# Altium footprint library 3Delight - Copy.PcbLib: 108 footprints (part 5 of 7)
Each footprint in its own frame and in the unit in brackets; x right, y up, seen from the top. Pads: shape width x height; smd on the part's side, far side on the other; paste and mask are expansions set on the pad; w line width, h text height; cw(c..) or ccw(c..) is an arc to the next point about the centre after c.
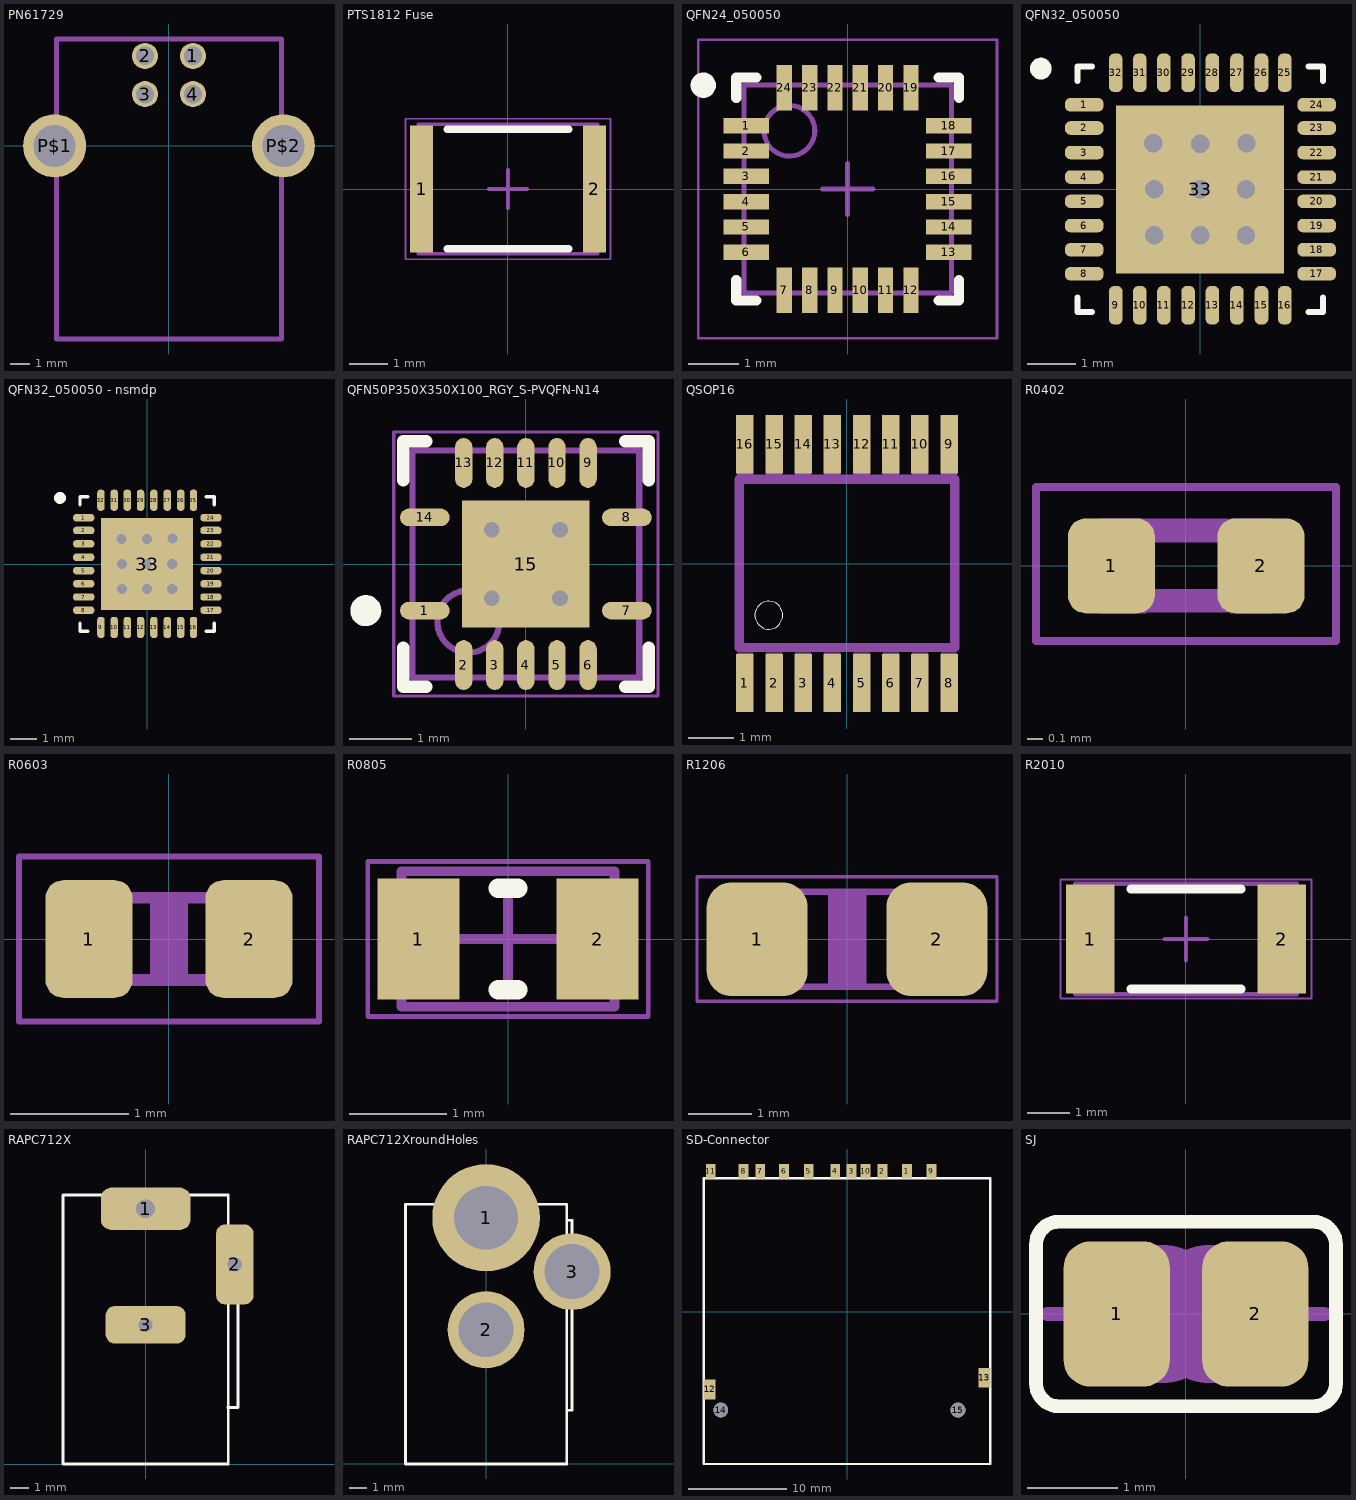
[diagram p4: the footprints below, top view; thin cyan lines are the x and y axes]

## PN61729 [mil]
pads (6):
  round 54 hole 38: 1(50,186) 2(-49.21,186) 3(-49.21,107) 4(50,107)
  round 130.5 hole 87: P$1(-236.22,0) P$2(237,0)
Top Document:
  lines w10: -232.28,-399.61 -232.28,221 233,221 233,-399.61 -232.28,-399.61
3D body: height 405.51, standoff 27.56, extent -237.28,-404.61 238,226

## PTS1812 Fuse [mm]
height 1.2
pads (2):
  rect 0.6x3.35 smd: 1(-2.275,0) 2(2.275,0)
Top Overlay:
  lines w0.2: -1.6,-1.575 1.6,-1.575 ; -1.6,1.575 1.6,1.575
Mechanical 13:
  lines w0.1: -2.365,-1.705 2.365,-1.705 2.365,1.705 -2.365,1.705 -2.365,-1.705
Top Courtyard:
  lines w0.05: -2.7,-1.85 2.7,-1.85 2.7,1.85 -2.7,1.85 -2.7,-1.85
  lines w0.1: -0.5,0 0.5,0 ; 0,-0.5 0,0.5
3D body: height 1.2, standoff 0, extent 2.135,-1.705 2.365,1.705
3D body: height 1.2, standoff 0, extent -2.365,-1.705 -2.135,1.705
3D body: height 1.2, standoff 0, extent -2.135,-1.705 2.135,1.705

## QFN24_050050 [mm] "MPU-6050"
height 0.95
pads (24):
  rect 0.9x0.3 smd: 1(-2,1.25) 2(-2,0.75) 3(-2,0.25) 4(-2,-0.25) 5(-2,-0.75) 6(-2,-1.25) 13(2,-1.25) 14(2,-0.75) 15(2,-0.25) 16(2,0.25) 17(2,0.75) 18(2,1.25)
  rect 0.3x0.9 smd: 7(-1.25,-2) 8(-0.75,-2) 9(-0.25,-2) 10(0.25,-2) 11(0.75,-2) 12(1.25,-2) 19(1.25,2) 20(0.75,2) 21(0.25,2) 22(-0.25,2) 23(-0.75,2) 24(-1.25,2)
Top Overlay:
  circle w0.25: c-2.85,2.05 r0.125
  lines w0.2: -2.2,-1.8 -2.2,-2.2 -1.8,-2.2 ; -2.2,1.8 -2.2,2.2 -1.8,2.2 ; 1.8,-2.2 2.2,-2.2 2.2,-1.8 ; 1.8,2.2 2.2,2.2 2.2,1.8
Mechanical 13:
  circle w0.1: c-1.15,1.15 r0.5
  lines w0.1: -2.05,-2.05 2.05,-2.05 2.05,2.05 -2.05,2.05 -2.05,-2.05
Top Courtyard:
  lines w0.05: -2.95,-2.95 2.95,-2.95 2.95,2.95 -2.95,2.95 -2.95,-2.95
  lines w0.1: -0.5,0 0.5,0 ; 0,-0.5 0,0.5
3D body: height 0.95, standoff 0, extent -2.05,-2.05 2.05,2.05

## QFN32_050050 [mm]
pads (33):
  rrect80% 0.8x0.28 smd mask+0.05: 1(-2.4,1.753) 2(-2.4,1.27) 3(-2.4,0.762) 4(-2.4,0.254) 5(-2.4,-0.25) 6(-2.4,-0.75) 7(-2.4,-1.25) 8(-2.4,-1.75) 17(2.413,-1.75) 18(2.413,-1.25) 19(2.413,-0.75) 20(2.413,-0.25) 21(2.413,0.254) 22(2.413,0.762) 23(2.413,1.27) 24(2.413,1.753)
  rrect80% 0.28x0.8 smd mask+0.05: 9(-1.75,-2.4) 10(-1.25,-2.4) 11(-0.75,-2.4) 12(-0.25,-2.4) 13(0.254,-2.4) 14(0.762,-2.4) 15(1.27,-2.4) 16(1.753,-2.4) 25(1.753,2.413) 26(1.27,2.413) 27(0.762,2.413) 28(0.254,2.413) 29(-0.25,2.413) 30(-0.75,2.413) 31(-1.25,2.413) 32(-1.75,2.413)
  rect 3.48x3.48 smd paste-4 mask-4: 33(0,0)
via 0.95,-0.95 diameter 0.762 hole 0.381
via 0,-0.95 diameter 0.762 hole 0.381
via -0.95,-0.95 diameter 0.762 hole 0.381
via -0.95,0 diameter 0.762 hole 0.381
via -0.975,0.95 diameter 0.762 hole 0.381
via 0,0.945 diameter 0.762 hole 0.381
via 0.959,0.957 diameter 0.762 hole 0.381
via 0.95,0 diameter 0.762 hole 0.381
via 0,0 diameter 0.762 hole 0.381
Top Overlay:
  circle w0.25: c-3.3,2.5 r0.1
  lines w0.127: -2.54,-2.24 -2.54,-2.54 -2.24,-2.54 ; -2.54,2.24 -2.54,2.54 -2.24,2.54 ; 2.24,-2.54 2.54,-2.54 2.54,-2.24 ; 2.24,2.54 2.54,2.54 2.54,2.24
Top Paste:
  region: -1.675,-1.675 -1.675,-1.05 -1.375,-1.05 -1.05,-1.375 -1.05,-1.675
  region: -0.125,-1.675 -0.825,-1.675 -0.825,-1.35 -0.575,-1.1 -0.35,-1.1 -0.125,-1.325
  region: -0.825,-0.575 -0.825,-0.375 -0.6,-0.15 -0.35,-0.15 -0.15,-0.35 -0.15,-0.6 -0.375,-0.825 -0.575,-0.825
  region: -1.675,-0.825 -1.675,-0.125 -1.348,-0.125 -1.1,-0.377 -1.1,-0.584 -1.337,-0.825
  region: 0.825,-1.675 0.125,-1.675 0.125,-1.348 0.377,-1.1 0.584,-1.1 0.825,-1.337
  region: 1.675,-0.125 1.675,-0.825 1.348,-0.825 1.1,-0.573 1.1,-0.366 1.337,-0.125
  region: 1.675,-1.675 1.05,-1.675 1.05,-1.375 1.375,-1.05 1.675,-1.05
  region: 0.125,-0.575 0.125,-0.375 0.35,-0.15 0.6,-0.15 0.8,-0.35 0.8,-0.6 0.575,-0.825 0.375,-0.825
  region: -0.125,0.575 -0.125,0.375 -0.35,0.15 -0.6,0.15 -0.8,0.35 -0.8,0.6 -0.575,0.825 -0.375,0.825
  region: -1.675,1.675 -1.05,1.675 -1.05,1.375 -1.375,1.05 -1.675,1.05
  region: -1.675,0.125 -1.675,0.825 -1.348,0.825 -1.1,0.573 -1.1,0.366 -1.337,0.125
  region: -0.825,1.675 -0.125,1.675 -0.125,1.348 -0.377,1.1 -0.584,1.1 -0.825,1.337
  region: 1.675,0.825 1.675,0.125 1.348,0.125 1.1,0.377 1.1,0.584 1.337,0.825
  region: 0.825,0.575 0.825,0.375 0.6,0.15 0.35,0.15 0.15,0.35 0.15,0.6 0.375,0.825 0.575,0.825
  region: 0.125,1.675 0.825,1.675 0.825,1.35 0.575,1.1 0.35,1.1 0.125,1.325
  region: 1.675,1.675 1.675,1.05 1.375,1.05 1.05,1.375 1.05,1.675
Top Solder:
  drawing of 37 lines, arcs and shapes, not listed
3D body: height 1, standoff 0, extent -2.84,-2.84 2.857,2.857

## QFN32_050050 - nsmdp [mm]
pads (33):
  rrect80% 0.8x0.28 smd: 1(-2.4,1.753) 2(-2.4,1.27) 3(-2.4,0.762) 4(-2.4,0.254) 5(-2.4,-0.25) 6(-2.4,-0.75) 7(-2.4,-1.25) 8(-2.4,-1.75) 17(2.413,-1.75) 18(2.413,-1.25) 19(2.413,-0.75) 20(2.413,-0.25) 21(2.413,0.254) 22(2.413,0.762) 23(2.413,1.27) 24(2.413,1.753)
  rrect80% 0.28x0.8 smd: 9(-1.75,-2.4) 10(-1.25,-2.4) 11(-0.75,-2.4) 12(-0.25,-2.4) 13(0.254,-2.4) 14(0.762,-2.4) 15(1.27,-2.4) 16(1.753,-2.4) 25(1.753,2.413) 26(1.27,2.413) 27(0.762,2.413) 28(0.254,2.413) 29(-0.25,2.413) 30(-0.75,2.413) 31(-1.25,2.413) 32(-1.75,2.413)
  rect 3.48x3.48 smd paste-4 mask-4: 33(0,0)
via 0.95,-0.95 diameter 0.762 hole 0.381
via 0,-0.95 diameter 0.762 hole 0.381
via -0.95,-0.95 diameter 0.762 hole 0.381
via -0.95,0 diameter 0.762 hole 0.381
via -0.975,0.95 diameter 0.762 hole 0.381
via 0,0.945 diameter 0.762 hole 0.381
via 0.959,0.957 diameter 0.762 hole 0.381
via 0.95,0 diameter 0.762 hole 0.381
via 0,0 diameter 0.762 hole 0.381
Top Overlay:
  circle w0.25: c-3.3,2.5 r0.1
  lines w0.127: -2.54,-2.24 -2.54,-2.54 -2.24,-2.54 ; -2.54,2.24 -2.54,2.54 -2.24,2.54 ; 2.24,-2.54 2.54,-2.54 2.54,-2.24 ; 2.24,2.54 2.54,2.54 2.54,2.24
Top Paste:
  region: -1.6,-1.6 -1.6,-1.1 -1.35,-1.1 -1.15,-1.3 -1.15,-1.6
  region: -1.6,-0.7 -1.6,-0.15 -1.3,-0.15 -1.15,-0.3 -1.15,-0.6 -1.25,-0.7
  region: -0.2,-1.6 -0.75,-1.6 -0.75,-1.3 -0.6,-1.15 -0.3,-1.15 -0.2,-1.25
  region: 0.762,-1.6 0.203,-1.6 0.203,-1.3 0.356,-1.15 0.66,-1.15 0.762,-1.25
  region: 1.6,-0.25 1.6,-0.8 1.321,-0.8 1.168,-0.65 1.168,-0.35 1.27,-0.25
  region: 1.6,-1.6 1.118,-1.6 1.118,-1.35 1.321,-1.15 1.6,-1.15
  region: 1.6,0.711 1.6,0.152 1.321,0.152 1.168,0.305 1.168,0.61 1.27,0.711
  region: -1.6,0.203 -1.6,0.762 -1.3,0.762 -1.15,0.61 -1.15,0.305 -1.25,0.203
  region: -1.6,1.6 -1.1,1.6 -1.1,1.372 -1.3,1.168 -1.6,1.168
  region: 1.6,1.6 1.6,1.118 1.372,1.118 1.168,1.321 1.168,1.6
  region: 0.254,1.6 0.813,1.6 0.813,1.321 0.66,1.168 0.356,1.168 0.254,1.27
  region: -0.75,-0.65 -0.75,-0.3 -0.65,-0.2 -0.3,-0.2 -0.2,-0.3 -0.2,-0.65 -0.3,-0.75 -0.65,-0.75
  region: 0.203,-0.65 0.203,-0.3 0.305,-0.2 0.66,-0.2 0.762,-0.3 0.762,-0.65 0.66,-0.75 0.305,-0.75
  region: -0.75,0.305 -0.75,0.66 -0.65,0.762 -0.3,0.762 -0.2,0.66 -0.2,0.305 -0.3,0.203 -0.65,0.203
  region: 0.203,0.305 0.203,0.66 0.305,0.762 0.66,0.762 0.762,0.66 0.762,0.305 0.66,0.203 0.305,0.203
  region: -0.75,1.6 -0.2,1.6 -0.2,1.321 -0.35,1.168 -0.65,1.168 -0.75,1.27
Top Solder:
  drawing of 41 lines, arcs and shapes, not listed
3D body: height 1, standoff 0, extent -2.84,-2.84 2.857,2.857

## QFN50P350X350X100_RGY_S-PVQFN-N14 [mm] "QFN, 14-Leads, Body 3.50x3.50mm, Pitch 1.50mm/0.50mm, Thermal Pad 2.05x2.05mm, IPC High Density"
height 1
pads (15):
  oval 0.8x0.28 smd: 1(-1.625,-0.75) 7(1.625,-0.75) 8(1.625,0.75) 14(-1.625,0.75)
  oval 0.28x0.8 smd: 2(-1,-1.625) 3(-0.5,-1.625) 4(0,-1.625) 5(0.5,-1.625) 6(1,-1.625) 9(1,1.625) 10(0.5,1.625) 11(0,1.625) 12(-0.5,1.625) 13(-1,1.625)
  rect 2.05x2.05 smd: 15(0,0)
via -0.55,-0.55 diameter 0.635 hole 0.254
via -0.55,0.55 diameter 0.635 hole 0.254
via 0.55,-0.55 diameter 0.635 hole 0.254
via 0.55,0.55 diameter 0.635 hole 0.254
Top Overlay:
  circle w0.25: c-2.575,-0.75 r0.125
  lines w0.2: -1.975,-1.35 -1.975,-1.975 -1.6,-1.975 ; -1.975,1.35 -1.975,1.975 -1.6,1.975 ; 1.6,-1.975 1.975,-1.975 1.975,-1.35 ; 1.6,1.975 1.975,1.975 1.975,1.35
Top Solder:
  rectangle: -1.346,-2.134 1.295,2.134
Mechanical 13:
  circle w0.1: c-0.925,-0.925 r0.5
  lines w0.1: -1.825,-1.825 1.825,-1.825 1.825,1.825 -1.825,1.825 -1.825,-1.825
Top Courtyard:
  lines w0.05: -2.125,-2.125 2.125,-2.125 2.125,2.125 -2.125,2.125 -2.125,-2.125
  lines w0.1: -0.5,0 0.5,0 ; 0,-0.5 0,0.5
3D body: height 1, standoff 0.08, extent -1.825,-1.825 1.825,1.825

## QSOP16 [mil]
pads (16):
  rect 15x50 smd: 1(-87.5,-102.36) 2(-62.5,-102.36) 3(-37.5,-102.36) 4(-12.5,-102.36) 5(13,-102.36) 6(38,-102.36) 7(63,-102.36) 8(88,-102.36) 9(88,103) 10(63,103) 11(38,103) 12(13,103) 13(-12.5,103) 14(-37.5,103) 15(-62.5,103) 16(-87.5,103)
Top Overlay:
  circle w0: c-67,-44 r12
Top Solder:
  rectangle: -96,-129 -79,-76
  rectangle: -94,-125 -81,-79
  rectangle: -71,-129 -54,-76
  rectangle: -69,-125 -56,-79
  rectangle: -46,-129 -29,-76
  rectangle: -44,-125 -31,-79
  rectangle: -21,-129 -4,-76
  rectangle: -19,-125 -6,-79
  rectangle: 4,-129 21,-76
  rectangle: 6,-125 19,-79
  rectangle: 29,-129 46,-76
  rectangle: 31,-125 44,-79
  rectangle: 54,-129 71,-76
  rectangle: 56,-125 69,-79
  rectangle: 79,-129 96,-76
  rectangle: 81,-125 94,-79
  region: 96,129 79,129 79,76 96,76
  region: 94,125 81,125 81,79 94,79
  region: 71,129 54,129 54,76 71,76
  region: 69,125 56,125 56,79 69,79
  region: 46,129 29,129 29,76 46,76
  region: 44,125 31,125 31,79 44,79
  region: 21,129 4,129 4,76 21,76
  region: 19,125 6,125 6,79 19,79
  region: -4,129 -21,129 -21,76 -4,76
  region: -6,125 -19,125 -19,79 -6,79
  region: -29,129 -46,129 -46,76 -29,76
  region: -31,125 -44,125 -44,79 -31,79
  region: -54,129 -71,129 -71,76 -54,76
  region: -56,125 -69,125 -69,79 -56,79
  region: -79,129 -96,129 -96,76 -79,76
  region: -81,125 -94,125 -94,79 -81,79
Top Document:
  rectangle: -94.5,-122.05 -80.5,-76
  rectangle: -69.5,-122.05 -55.5,-76
  rectangle: -44.5,-122.05 -30.5,-76
  rectangle: -19.5,-122.05 -5.5,-76
  rectangle: 6,-122.05 20,-76
  rectangle: 31,-122.05 45,-76
  rectangle: 56,-122.05 70,-76
  rectangle: 81,-122.05 95,-76
  region: 95,123 81,123 81,76 95,76
  region: 70,123 56,123 56,76 70,76
  region: 45,123 31,123 31,76 45,76
  region: 20,123 6,123 6,76 20,76
  region: -5.5,123 -19.5,123 -19.5,76 -5.5,76
  region: -30.5,123 -44.5,123 -44.5,76 -30.5,76
  region: -55.5,123 -69.5,123 -69.5,76 -55.5,76
  region: -80.5,123 -94.5,123 -94.5,76 -80.5,76
  lines w8: -92.49,-71.8 93,-71.8 93,-55.12 93,73 -92.49,73 -92.49,-71.8
3D body: height 9.84, standoff 0, extent -95,75 -80,125
3D body: height 9.84, standoff 0, extent -70,75 -55,125
3D body: height 9.84, standoff 0, extent -45,75 -30,125
3D body: height 9.84, standoff 0, extent -20,75 -5,125
3D body: height 9.84, standoff 0, extent 5,75 20,125
3D body: height 9.84, standoff 0, extent 30,75 45,125
3D body: height 9.84, standoff 0, extent 55,75 70,125
3D body: height 9.84, standoff 0, extent 80,75 95,125
3D body: height 9.84, standoff 0, extent 80,-125 95,-75
3D body: height 9.84, standoff 0, extent 55,-125 70,-75
3D body: height 9.84, standoff 0, extent 30,-125 45,-75
3D body: height 9.84, standoff 0, extent 5,-125 20,-75
3D body: height 9.84, standoff 0, extent -20,-125 -5,-75
3D body: height 9.84, standoff 0, extent -45,-125 -30,-75
3D body: height 9.84, standoff 0, extent -70,-125 -55,-75
3D body: height 9.84, standoff 0, extent -95,-125 -80,-75
3D body: height 64.96, standoff 0, extent -95,-75 95,75

## R0402 [mil]
pads (2):
  rrect40% 22x24 smd: 1(-18.9,0) 2(19,0)
Top Document:
  rectangle: 11,-12 22,12
  rectangle: -21.81,-12 -10,12
  lines w6: -9.65,-8.82 10,-8.82 ; -9.65,9 10,9
Top Courtyard:
  lines w2: -37.99,-19.02 -37.99,20 38,20 38,-19.02 -37.99,-19.02
3D body: height 13.78, standoff 0, extent -20,-10 20,10

## R0603 [mm]
pads (2):
  rrect40% 0.74x1 smd: 1(-0.68,0) 2(0.68,0)
Mechanical 6:
  rectangle: -0.16,-0.3 0.16,0.3
Top Document:
  rectangle: 0.45,-0.4 0.8,0.4
  rectangle: -0.8,-0.4 -0.45,0.4
  lines w0.1: -0.45,0.35 0.45,0.35
  lines w0.102: -0.45,-0.35 0.45,-0.35
Top Courtyard:
  lines w0.051: -1.275,-0.7 -1.275,0.7 1.275,0.7 1.275,-0.7 -1.275,-0.7
3D body: height 0.8, standoff 0, extent -0.8,-0.4 0.8,0.4

## R0805 [mm]
height 0.5
pads (2):
  rect 0.85x1.25 smd: 1(-0.925,0) 2(0.925,0)
Top Overlay:
  lines w0.2: -0.1,-0.525 0.1,-0.525 ; -0.1,0.525 0.1,0.525
Mechanical 13:
  lines w0.1: -1.1,-0.7 1.1,-0.7 1.1,0.7 -1.1,0.7 -1.1,-0.7
Top Courtyard:
  lines w0.05: -1.45,-0.8 1.45,-0.8 1.45,0.8 -1.45,0.8 -1.45,-0.8
  lines w0.1: -0.5,0 0.5,0 ; 0,-0.5 0,0.5
3D body: height 0.5, standoff 0, extent 0.75,-0.7 1.1,0.7
3D body: height 0.5, standoff 0, extent -1.1,-0.7 -0.75,0.7
3D body: height 0.5, standoff 0, extent -0.75,-0.7 0.75,0.7

## R1206 [mil]
pads (2):
  rrect50% 63x71 smd: 1(-55.98,0) 2(56,0)
Mechanical 6:
  rectangle: -11.81,-27.56 12,28
Top Document:
  rectangle: 32.02,-31.5 61.02,31.5
  rectangle: -61.02,-31.5 -32.02,31.5
  lines w3.94: -40.35,29.53 35.65,29.53 ; -34.66,-29.53 41.34,-29.53
Top Courtyard:
  lines w2: -93.5,-38.7 -93.5,39 93.5,39 93.5,-38.7 -93.5,-38.7
3D body: height 23.62, standoff 0, extent -61.02,-31.5 61.02,31.5

## R2010 [mm]
height 0.75
pads (2):
  rect 1.15x2.55 smd: 1(-2.25,0) 2(2.25,0)
Top Overlay:
  lines w0.2: -1.3,-1.175 1.3,-1.175 ; -1.3,1.175 1.3,1.175
Mechanical 13:
  lines w0.1: -2.6,-1.3 -2.6,1.3 2.6,1.3 2.6,-1.3 -2.6,-1.3
Top Courtyard:
  lines w0.05: -2.95,-1.4 -2.95,1.4 2.95,1.4 2.95,-1.4 -2.95,-1.4
  lines w0.1: -0.5,0 0.5,0 ; 0,-0.5 0,0.5
3D body: height 0.75, standoff 0, extent -2.1,-1.3 2.1,1.3
3D body: height 0.75, standoff 0, extent -2.6,-1.3 -2.1,1.3
3D body: height 0.75, standoff 0, extent 2.1,-1.3 2.6,1.3

## RAPC712X [mil]
pads (3):
  rrect50% 190x90 hole 40 square paste-30: 1(0,541)
  rrect50% 80x170 hole 30 square paste-30: 2(189,423)
  rrect50% 170x80 hole 30 square paste-30: 3(0,295)
Top Overlay:
  lines w6: -118.11,0 137.8,0 ; 174,120 196,120 196,494 174,494 ; -175,0 -175,570 175,570 175,0 -175,0
3D body: height 215, standoff 0, extent 175.02,120.02 195.98,493.98
3D body: height 430, standoff 0, extent -174.98,0.02 174.98,569.98

## RAPC712XroundHoles [mm]
pads (3):
  round 6 hole 3.56 paste-99: 1(0,13.74)
  round 4.3 hole 3.05 paste-99: 2(0,7.49) 3(4.8,10.74)
Top Overlay:
  lines w0.152: 4.5,3 4.8,3 4.8,13.6 4.5,13.6 ; -4.5,0 4.5,0 4.5,14.5 -4.5,14.5 -4.5,0
3D body: height 6, standoff 0, extent 4.501,3.001 4.799,13.599
3D body: height 11, standoff 0, extent -4.499,0.001 4.499,14.499

## SD-Connector [mm]
pads (15):
  rect 1x1.5 smd: 1(6.1,14.3) 2(3.6,14.3) 3(0.46,14.3) 4(-1.19,14.3) 5(-3.9,14.3) 6(-6.4,14.3) 7(-8.83,14.3) 8(-10.53,14.3) 9(8.6,14.3) 10(1.9,14.3) 11(-13.88,14.3)
  rect 1.2x2 smd: 12(-14,-7.91) 13(14,-6.71)
  round 1.5 hole 1.5 paste-99 mask-99: 14(-12.85,-10.01) 15(11.3,-10.01)
Top Overlay:
  lines w0.254: -14.6,-15.5 -14.6,13.6 14.6,13.6 14.6,-15.5 -14.6,-15.5
3D body: height 2.95, standoff 0, extent -14.727,-15.627 14.727,13.727

## SJ [mil]
pads (2):
  rrect50% 46x63 smd: 1(-30,0) 2(30,0)
Top Overlay:
  lines w6: -65,-30 ccw(c-55,-30) -55,-40 55,-40 ccw(c55,-30) 65,-30 65,30 ccw(c55,30) 55,40 -55,40 ccw(c-55,30) -65,30 -65,-30
Top Solder:
  rectangle: -18.7,-34.45 16.73,36
Top Document:
  lines w6: -60,0 -40,0 ; 40,0 60,0
  lines w50: -10,-5 cw(c-10,0) -10,5 ; 10,-5 ccw(c10,0) 10,5
3D body: height 3.94, standoff 0, extent 6.89,-31.5 53.15,30.51
3D body: height 3.94, standoff 0, extent -53.15,-30.51 -6.89,31.5